# Altium schematic symbol library 4 Pin 100 mil Vertical Header - Through Hole.SchLib: 1 symbol
Pins are listed as number, name and electrical type; pins without a type are passive.

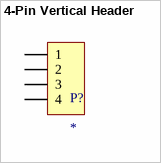
[diagram p0: symbol 4-Pin Vertical Header]

## 4-Pin Vertical Header
designator P?
Manufacturer: Sullins; Manufacturer No.: PPPC041LFBN-RC
footprint 4-Pin Vertical Header
footprint 4-Pin Vertical Header
pins: 1, 2, 3, 4